# Altium footprint library smartwatch.PcbLib: 32 footprints (part 1 of 2)
Each footprint in its own frame and in the unit in brackets; x right, y up, seen from the top. Pads: shape width x height; smd on the part's side, far side on the other; paste and mask are expansions set on the pad; w line width, h text height; cw(c..) or ccw(c..) is an arc to the next point about the centre after c.
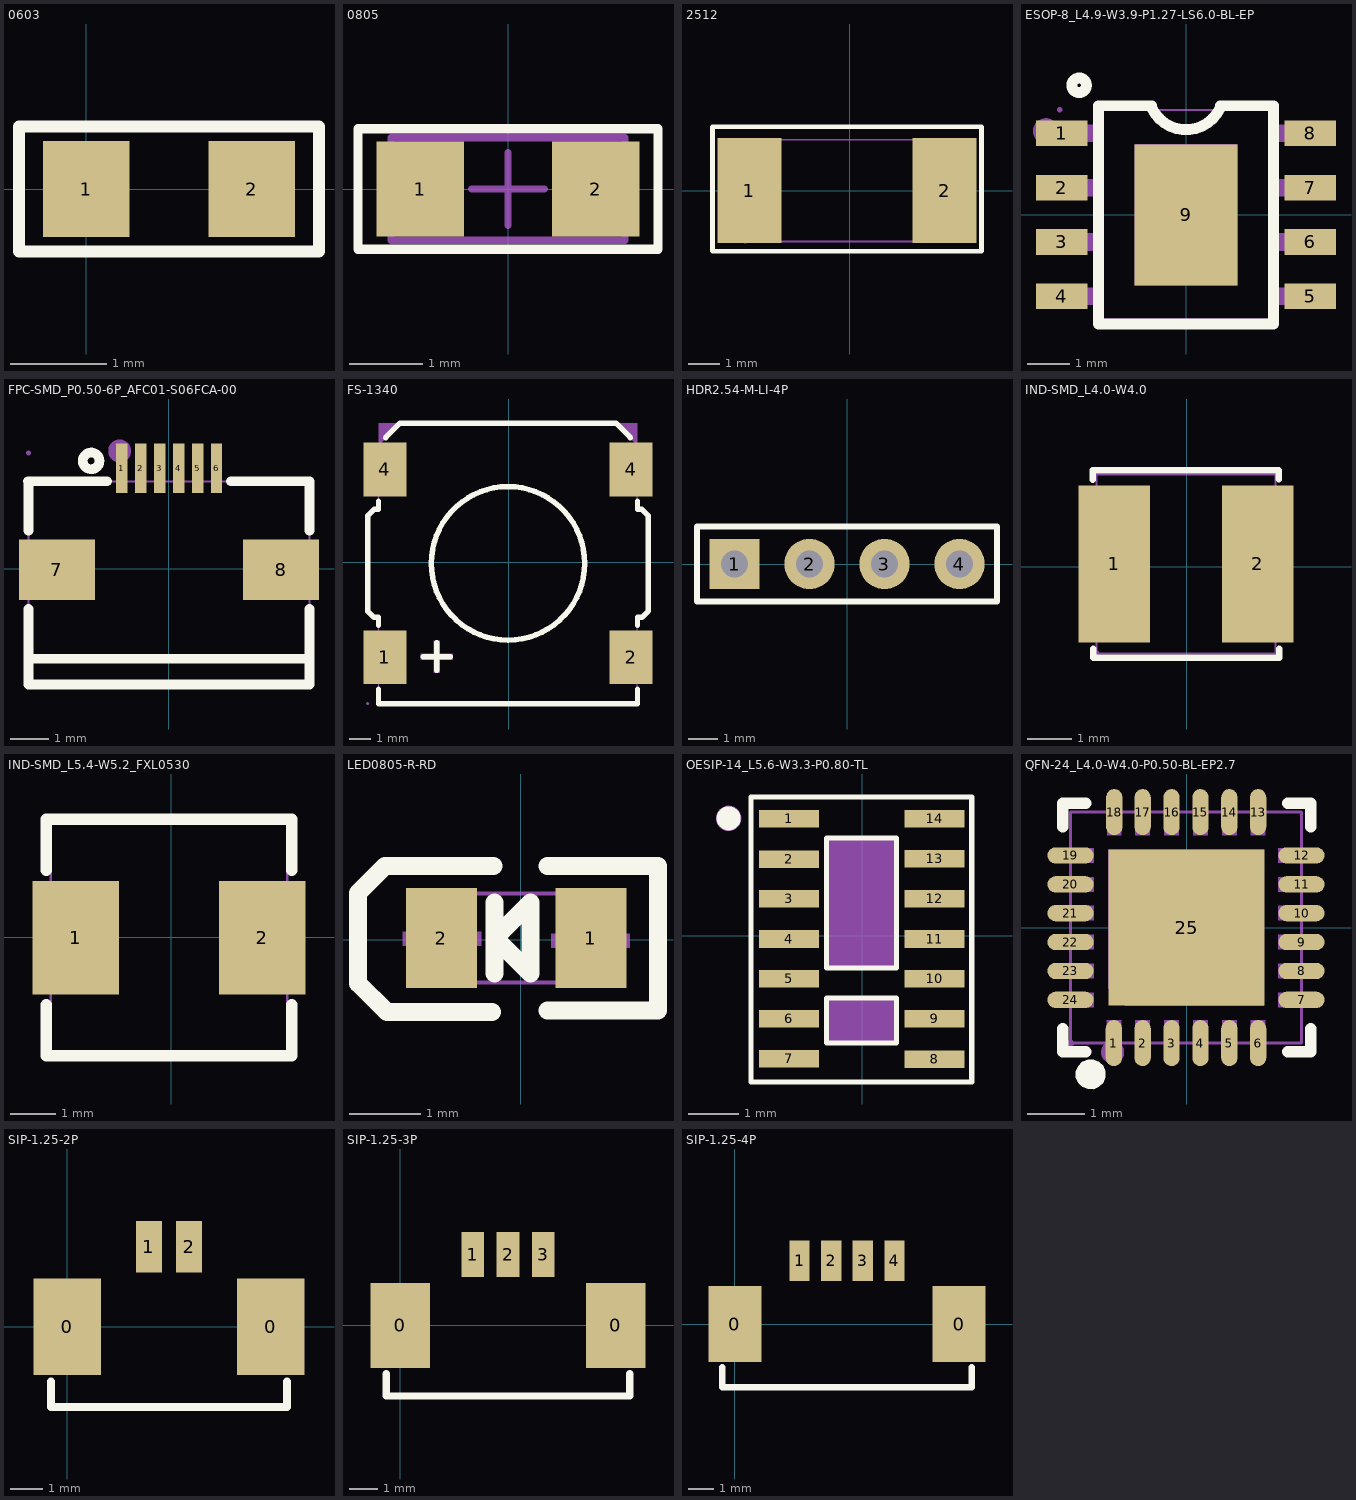
[diagram p0: the footprints below, top view; thin cyan lines are the x and y axes]

## 0603 [mm]
pads (2):
  rect 0.9x1 smd: 1(0,0) 2(1.725,0)
Top Overlay:
  lines w0.127: -0.7,-0.65 2.425,-0.65 2.425,0.65 -0.7,0.65 -0.7,-0.65

## 0805 [mm] "Chip Resistor, 2-Leads, Body 3.13x1.33mm, IPC Medium Density"
height 1.25
pads (2):
  rect 1.2x1.3 smd: 1(-1.2,0) 2(1.2,0)
Top Overlay:
  lines w0.127: -2.05,-0.825 -2.05,0.825 2.05,0.825 2.05,-0.825 -2.05,-0.825
Mechanical 13:
  lines w0.1: -1.6,-0.7 -1.6,0.7 1.6,0.7 1.6,-0.7 -1.6,-0.7
Mechanical 15:
  lines w0.1: -0.5,0 0.5,0 ; 0,-0.5 0,0.5
3D body: height 1.25, standoff 0, extent -0.43,-0.7 0.43,0.7
3D body: height 1.25, standoff 0, extent -1.6,-0.7 -0.43,0.7
3D body: height 1.25, standoff 0, extent 0.43,-0.7 1.6,0.7

## 2512 [mm]
pads (2):
  rect 2x3.3 smd: 1(-3.155,0) 2(2.977,0)
Top Overlay:
  lines w0.152: -4.318,-1.905 -4.318,2.008 4.14,2.008 4.14,-1.905 -4.318,-1.905
Mechanical 15:
  region: -3.229,-1.6 -3.229,-1.575 -3.264,-1.54 -3.314,-1.54 -3.349,-1.575 -3.349,-1.6 -3.349,-1.625 -3.314,-1.66 -3.264,-1.66 -3.229,-1.625
  region: -3.288,1.6 -2.388,1.6 -2.388,-1.6 -3.288,-1.6
  region: 2.21,1.6 3.11,1.6 3.11,-1.6 2.21,-1.6
  lines w0.051: -3.289,-1.6 -3.289,1.6 3.111,1.6 3.111,-1.6 -3.289,-1.6

## ESOP-8_L4.9-W3.9-P1.27-LS6.0-BL-EP [mm]
pads (9):
  rect 1.2x0.6 smd: 1(-2.908,1.905) 2(-2.908,0.635) 3(-2.908,-0.635) 4(-2.908,-1.905) 5(2.908,-1.905) 6(2.908,-0.635) 7(2.908,0.635) 8(2.908,1.905)
  rect 2.4x3.3 smd: 9(0,0)
Top Overlay:
  circle w0.254: c-2.5,3.03 r0.17
  lines w0.254: -0.8,2.5 ccw(c0,2.875) 0.8,2.5 ; -0.8,2.55 -2.05,2.55 -2.05,-2.55 2.05,-2.55 2.05,2.55 0.8,2.55
Mechanical 6:
  circle w0.3: c-3.28,1.96 r0.15
Mechanical 15:
  region: -1.2,-1.65 -1.2,1.65 1.2,1.65 1.2,-1.65
  region: -2.95,-1.705 -2.3,-1.705 -2.3,-2.105 -2.95,-2.105
  region: -2.31,-1.705 -1.94,-1.705 -1.94,-2.105 -2.31,-2.105
  region: -2.95,-0.435 -2.3,-0.435 -2.3,-0.835 -2.95,-0.835
  region: -2.31,-0.435 -1.94,-0.435 -1.94,-0.835 -2.31,-0.835
  region: -2.95,0.835 -2.3,0.835 -2.3,0.435 -2.95,0.435
  region: -2.31,0.835 -1.94,0.835 -1.94,0.435 -2.31,0.435
  region: -2.95,2.105 -2.3,2.105 -2.3,1.705 -2.95,1.705
  region: -2.31,2.105 -1.94,2.105 -1.94,1.705 -2.31,1.705
  region: 2.3,-1.705 2.95,-1.705 2.95,-2.105 2.3,-2.105
  region: 1.94,-1.705 2.31,-1.705 2.31,-2.105 1.94,-2.105
  region: 2.3,-0.435 2.95,-0.435 2.95,-0.835 2.3,-0.835
  region: 1.94,-0.435 2.31,-0.435 2.31,-0.835 1.94,-0.835
  region: 2.3,0.835 2.95,0.835 2.95,0.435 2.3,0.435
  region: 1.94,0.835 2.31,0.835 2.31,0.435 1.94,0.435
  region: 2.3,2.105 2.95,2.105 2.95,1.705 2.3,1.705
  region: 1.94,2.105 2.31,2.105 2.31,1.705 1.94,1.705
  region: -2.95,2.394 -2.925,2.395 -2.891,2.43 -2.891,2.479 -2.926,2.514 -2.95,2.514 -2.974,2.514 -3.009,2.479 -3.009,2.43 -2.974,2.395
  lines w0.051: -1.95,-2.45 -1.95,2.45 1.95,2.45 1.95,-2.45 -1.95,-2.45

## FPC-SMD_P0.50-6P_AFC01-S06FCA-00 [mm]
pads (8):
  rect 0.3x1.3 smd: 1(-1.235,2.652) 2(-0.735,2.652) 3(-0.235,2.652) 4(0.265,2.652) 5(0.765,2.652) 6(1.265,2.652)
  rect 2x1.6 smd: 7(-2.937,-0.026) 8(2.963,-0.026)
Top Overlay:
  circle w0.254: c-2.037,2.843 r0.22
  lines w0.254: -3.707,2.303 -1.616,2.303 ; -3.687,-2.369 3.713,-2.369 ; -3.687,-1.057 -3.687,-3.047 3.713,-3.047 3.713,-1.057 ; -3.687,1.005 -3.687,2.303 ; 1.646,2.303 3.713,2.303 3.713,1.005
Mechanical 6:
  circle w0.3: c-1.287,3.103 r0.15
Mechanical 15:
  region: -2.237,0.522 -2.237,-0.478 -3.637,-0.478 -3.637,0.522
  region: 3.663,0.522 3.663,-0.478 2.263,-0.478 2.263,0.522
  region: -1.135,2.252 -1.335,2.252 -1.335,3.052 -1.135,3.052
  region: -0.635,2.252 -0.835,2.252 -0.835,3.052 -0.635,3.052
  region: -0.135,2.252 -0.335,2.252 -0.335,3.052 -0.135,3.052
  region: 0.365,2.252 0.165,2.252 0.165,3.052 0.365,3.052
  region: 0.865,2.252 0.665,2.252 0.665,3.052 0.865,3.052
  region: 1.365,2.252 1.165,2.252 1.165,3.052 1.365,3.052
  region: -3.627,3.052 -3.627,3.027 -3.662,2.992 -3.712,2.992 -3.747,3.027 -3.747,3.052 -3.747,3.077 -3.712,3.112 -3.662,3.112 -3.627,3.077
  lines w0.051: -3.687,-3.048 3.713,-3.048 3.713,2.302 -3.687,2.302 -3.687,-3.048

## FS-1340 [mm] "喇叭13*13MM-4.0H 8Ω0.5W 贴片"
pads (4):
  rect 2x2.5 smd paste+0 mask+0.05: 1(-5.731,-4.394) 2(5.669,-4.394) 4(-5.731,4.306) 4(5.669,4.306)
Top Overlay:
  circle w0.254: c-0.031,-0.044 r3.556
  lines w0.254: -6.031,-5.875 -6.031,-6.544 5.969,-6.544 5.969,-5.875 ; -6.031,-2.913 -6.031,-2.544 -6.231,-2.544 -6.531,-2.254 -6.531,2.156 -6.231,2.456 -6.031,2.456 -6.031,2.825 ; -5.701,5.787 -5.031,6.456 4.969,6.456 5.639,5.787 5.643,5.787 ; -3.968,-4.362 -2.698,-4.362 ; -3.333,-4.997 -3.333,-3.727 ; 5.969,-2.913 5.969,-2.544 6.169,-2.544 6.469,-2.244 6.469,2.156 6.169,2.456 5.969,2.456 5.969,2.825
Mechanical 6:
  region: 4.969,6.456 5.969,6.456 5.969,5.456
  region: -5.031,6.456 -6.031,6.456 -6.031,5.456
  region: -3.468,-5.108 -3.468,-3.626 -3.195,-3.626 -3.195,-5.108 -3.219,-5.108
  region: -4.065,-4.236 -2.583,-4.236 -2.583,-4.508 -4.065,-4.508 -4.065,-4.485
Mechanical 15:
  region: -6.231,5.406 -5.231,5.406 -5.231,3.206 -6.231,3.206
  region: -6.231,-3.294 -5.231,-3.294 -5.231,-5.494 -6.231,-5.494
  region: 5.169,-3.294 6.169,-3.294 6.169,-5.494 5.169,-5.494
  region: -6.471,-6.544 -6.471,-6.52 -6.506,-6.485 -6.555,-6.485 -6.59,-6.52 -6.591,-6.544 -6.59,-6.569 -6.555,-6.603 -6.506,-6.603 -6.471,-6.569
  lines w0.051: -6.531,-2.244 -6.531,2.156 -6.231,2.456 -6.031,2.456 -6.031,3.206 -6.221,3.206 -6.231,5.406 -6.031,5.406 -6.031,5.456 -5.031,6.456 4.969,6.456 5.969,5.456 5.969,5.406 6.159,5.406 6.169,3.206 5.969,3.206 5.969,2.456 6.169,2.456 6.469,2.156 6.469,-2.244 6.169,-2.544 5.969,-2.544 5.969,-3.294 6.159,-3.294 6.169,-5.494 5.969,-5.494 5.969,-6.544 -6.031,-6.544 -6.031,-5.494 -6.221,-5.494 -6.231,-3.294 -6.031,-3.294 -6.031,-2.544 -6.231,-2.544 -6.531,-2.244

## HDR2.54-M-LI-4P [mm] "排母，4脚"
pads (4):
  rect 1.7x1.7 hole 0.9: 1(-3.81,0)
  round 1.7 hole 0.9: 2(-1.27,0) 3(1.27,0) 4(3.81,0)
Top Overlay:
  lines w0.2: -5.08,-1.27 -5.08,1.27 5.08,1.27 5.08,-1.27 -5.08,-1.27
3D body "HDR2.54-1P_M.STEP": height 8.5, standoff -3, extent -2.54,-1.27 0,1.27
3D body "HDR2.54-1P_M.STEP": height 8.5, standoff -3, extent -5.08,-1.27 -2.54,1.27
3D body "HDR2.54-1P_M.STEP": height 8.5, standoff -3, extent 2.54,-1.27 5.08,1.27
3D body "HDR2.54-1P_M.STEP": height 8.5, standoff -3, extent 0,-1.27 2.54,1.27

## IND-SMD_L4.0-W4.0 [mm]
pads (2):
  rect 1.6x3.5 smd: 1(-1.613,0.064) 2(1.587,0.064)
Top Overlay:
  lines w0.15: -2.093,1.944 -2.096,2.16 2.057,2.16 2.057,1.964 ; -2.083,-1.826 -2.083,-2.032 2.069,-2.032 2.067,-1.836
Mechanical 15:
  region: -1.953,-1.936 -1.954,-1.912 -1.989,-1.879 -2.037,-1.879 -2.072,-1.912 -2.073,-1.936 -2.072,-1.96 -2.037,-1.993 -1.989,-1.993 -1.954,-1.96
  region: 1.037,1.714 1.987,1.714 1.987,-1.586 1.037,-1.586
  region: -2.013,1.714 -1.063,1.714 -1.063,-1.586 -2.013,-1.586
  lines w0.051: -2.013,-1.936 -2.013,2.064 1.987,2.064 1.987,-1.936 -2.013,-1.936

## IND-SMD_L5.4-W5.2_FXL0530 [mm]
pads (2):
  rect 1.9x2.5 smd: 1(-2.098,-0.007) 2(2.002,-0.007)
Top Overlay:
  lines w0.254: -2.748,-1.488 -2.748,-2.607 2.652,-2.607 2.652,-1.488 ; -2.748,1.474 -2.748,2.593 2.652,2.593 2.652,1.474
Mechanical 15:
  region: -2.688,-2.607 -2.688,-2.582 -2.723,-2.547 -2.773,-2.547 -2.808,-2.582 -2.808,-2.607 -2.808,-2.632 -2.773,-2.667 -2.723,-2.667 -2.688,-2.632
  region: -2.748,1.093 -1.548,1.093 -1.548,-1.107 -2.748,-1.107
  region: 2.652,-1.107 1.452,-1.107 1.452,1.093 2.652,1.093
  lines w0.051: -2.648,-2.607 2.552,-2.607 2.552,2.593 -2.648,2.593 -2.648,-2.607

## LED0805-R-RD [mm] "0805 LED"
pads (2):
  rect 1x1.4 smd: 1(0.988,0.027) 2(-1.113,0.027)
Top Overlay:
  lines w0.254: -0.406,-1.016 -1.88,-1.016 -2.286,-0.61 -2.286,0.66 -1.905,1.041 -0.381,1.041 ; -0.37,-0.474 -0.37,0.527 ; 0.381,-0.991 1.93,-0.991 1.93,1.041 0.381,1.041 ; -0.362,0.027 -0.262,0.127 0.138,0.527 0.138,-0.474 -0.262,-0.074 -0.362,0.027
Mechanical 6:
  region: 0.879,-0.529 0.879,0.571 1.079,0.571 1.079,-0.529
  region: 0.432,0.086 1.532,0.086 1.532,-0.114 0.432,-0.114
  region: -0.557,-0.083 -1.657,-0.083 -1.657,0.117 -0.557,0.117
Mechanical 15:
  region: 0.998,0.652 0.997,0.676 0.962,0.71 0.913,0.71 0.878,0.676 0.878,0.652 0.878,0.627 0.913,0.593 0.962,0.593 0.997,0.627
  region: 0.938,-0.598 0.538,-0.598 0.538,0.652 0.938,0.652
  region: -0.662,-0.598 -1.062,-0.598 -1.062,0.652 -0.662,0.652
  lines w0.051: -1.062,-0.598 -1.062,0.652 0.938,0.652 0.938,-0.598 -1.062,-0.598

## MPU-6050 [mm]

## OESIP-14_L5.6-W3.3-P0.80-TL [mm] "高灵敏度脉搏血氧仪和心率传感器"
pads (14):
  rect 1.2x0.35 smd paste+0 mask+0.05: 1(-1.461,2.337) 2(-1.461,1.537) 3(-1.461,0.737) 4(-1.461,-0.063) 5(-1.461,-0.863) 6(-1.461,-1.663) 7(-1.461,-2.462) 8(1.447,-2.463) 9(1.447,-1.663) 10(1.447,-0.863) 11(1.447,-0.063) 12(1.447,0.737) 13(1.447,1.538) 14(1.447,2.337)
Top Overlay:
  circle w0.24: c-2.674,2.35 r0.12
  lines w0.102: -2.227,-2.921 2.189,-2.921 2.189,2.779 -2.227,2.779 -2.227,-2.921 ; -0.719,-2.146 0.681,-2.146 0.681,-1.246 -0.719,-1.246 -0.719,-2.146 ; -0.719,-0.646 0.681,-0.646 0.681,1.954 -0.719,1.954 -0.719,-0.646
Mechanical 6:
  circle w0.254: c-2.674,2.35 r0.127
  region: -0.719,1.954 -0.719,-0.646 0.681,-0.646 0.681,1.954
  region: -0.719,-1.246 -0.719,-2.146 0.681,-2.146 0.681,-1.246

## QFN-24_L4.0-W4.0-P0.50-BL-EP2.7 [mm]
pads (25):
  oval 0.28x0.8 smd paste-100 mask+0.05: 1(-1.262,-2) 2(-0.763,-2) 3(-0.262,-2) 4(0.237,-2) 5(0.738,-2) 6(1.237,-2) 13(1.237,2) 14(0.738,2) 15(0.237,2) 16(-0.262,2) 17(-0.763,2) 18(-1.255,2)
  oval 0.8x0.28 smd paste-100 mask+0.05: 7(1.988,-1.25) 8(1.988,-0.75) 9(1.988,-0.25) 10(1.988,0.25) 11(1.988,0.75) 12(1.988,1.25) 19(-2.012,1.25) 20(-2.012,0.75) 21(-2.012,0.25) 22(-2.012,-0.25) 23(-2.012,-0.75) 24(-2.012,-1.25)
  rect 2.7x2.7 smd paste-100 mask+0.05: 25(0,0)
Top Overlay:
  region: -1.409,-2.539 -1.41,-2.488 -1.449,-2.395 -1.52,-2.324 -1.614,-2.286 -1.715,-2.286 -1.808,-2.325 -1.879,-2.396 -1.917,-2.49 -1.917,-2.54 -1.917,-2.59 -1.879,-2.684 -1.808,-2.755 -1.715,-2.794 -1.614,-2.794 -1.52,-2.756 -1.449,-2.685 -1.41,-2.592 -1.409,-2.541
  lines w0.2: -2.15,-1.75 -2.15,-2.15 -1.75,-2.15 ; -2.15,1.75 -2.15,2.15 -1.75,2.15 ; 1.75,-2.15 2.15,-2.15 2.15,-1.75 ; 1.75,2.15 2.15,2.15 2.15,1.75
Top Paste:
  drawing of 25 lines, arcs and shapes, not listed
Mechanical 6:
  circle w0.2: c-1.282,-2.159 r0.1
Mechanical 15:
  region: -1.387,-2 -1.387,-1.6 -1.137,-1.6 -1.137,-2
  region: -0.888,-2 -0.888,-1.6 -0.638,-1.6 -0.638,-2
  region: -0.387,-2 -0.387,-1.6 -0.137,-1.6 -0.137,-2
  region: 0.112,-2 0.112,-1.6 0.362,-1.6 0.362,-2
  region: 0.613,-2 0.613,-1.6 0.863,-1.6 0.863,-2
  region: 1.112,-2 1.112,-1.6 1.362,-1.6 1.362,-2
  region: 1.588,-1.375 1.588,-1.125 1.988,-1.125 1.988,-1.375
  region: 1.588,-0.875 1.588,-0.625 1.988,-0.625 1.988,-0.875
  region: 1.588,-0.375 1.588,-0.125 1.988,-0.125 1.988,-0.375
  region: 1.588,0.125 1.588,0.375 1.988,0.375 1.988,0.125
  region: 1.588,0.625 1.588,0.875 1.988,0.875 1.988,0.625
  region: 1.588,1.125 1.588,1.375 1.988,1.375 1.988,1.125
  region: 1.112,1.6 1.112,2 1.362,2 1.362,1.6
  region: 0.613,1.6 0.613,2 0.863,2 0.863,1.6
  region: 0.112,1.6 0.112,2 0.362,2 0.362,1.6
  region: -0.387,1.6 -0.387,2 -0.137,2 -0.137,1.6
  region: -0.888,1.6 -0.888,2 -0.638,2 -0.638,1.6
  region: -1.379,1.6 -1.379,2 -1.13,2 -1.13,1.6
  region: -2.012,1.125 -2.012,1.375 -1.612,1.375 -1.612,1.125
  region: -2.012,0.625 -2.012,0.875 -1.612,0.875 -1.612,0.625
  region: -2.012,0.125 -2.012,0.375 -1.612,0.375 -1.612,0.125
  region: -2.012,-0.375 -2.012,-0.125 -1.612,-0.125 -1.612,-0.375
  region: -2.012,-0.875 -2.012,-0.625 -1.612,-0.625 -1.612,-0.875
  region: -2.012,-1.375 -2.012,-1.125 -1.612,-1.125 -1.612,-1.375
  region: -1.362,-1.05 -1.362,1.35 1.338,1.35 1.338,-1.35 -1.062,-1.35
  region: -1.952,-2 -1.953,-1.976 -1.988,-1.942 -2.037,-1.942 -2.071,-1.976 -2.072,-2 -2.071,-2.024 -2.037,-2.058 -1.988,-2.058 -1.953,-2.024
  lines w0.051: -2.013,-2 1.987,-2 1.987,2 -2.013,2 -2.013,-2

## SIP-1.25-2P [mm]
pads (4):
  rect 2.1x3 smd: 0(0,0) 0(6.35,0)
  rect 0.8x1.6 smd: 1(2.55,2.5) 2(3.8,2.5)
Top Overlay:
  lines w0.254: -0.5,-1.7 -0.5,-2.1 -0.5,-2.5 1.5,-2.5 4.85,-2.5 6.85,-2.5 6.85,-2.1 6.85,-1.7

## SIP-1.25-3P [mm]
pads (5):
  rect 2.1x3 smd: 0(0,0) 0(7.6,0)
  rect 0.8x1.6 smd: 1(2.55,2.5) 2(3.8,2.5) 3(5.05,2.5)
Top Overlay:
  lines w0.254: -0.5,-1.7 -0.5,-2.1 -0.5,-2.5 1.5,-2.5 6.1,-2.5 8.1,-2.5 8.1,-2.1 8.1,-1.7

## SIP-1.25-4P [mm]
pads (6):
  rect 2.1x3 smd: 0(0,0) 0(8.85,0)
  rect 0.8x1.6 smd: 1(2.55,2.5) 2(3.8,2.5) 3(5.05,2.5) 4(6.3,2.5)
Top Overlay:
  lines w0.254: -0.5,-1.7 -0.5,-2.1 -0.5,-2.5 1.5,-2.5 7.35,-2.5 9.35,-2.5 9.35,-2.1 9.35,-1.7